# Altium footprint library SSW-109-01-T-S.PcbLib: 1 footprints
Each footprint in its own frame and in the unit in brackets; x right, y up, seen from the top. Pads: shape width x height; smd on the part's side, far side on the other; paste and mask are expansions set on the pad; w line width, h text height; cw(c..) or ccw(c..) is an arc to the next point about the centre after c.
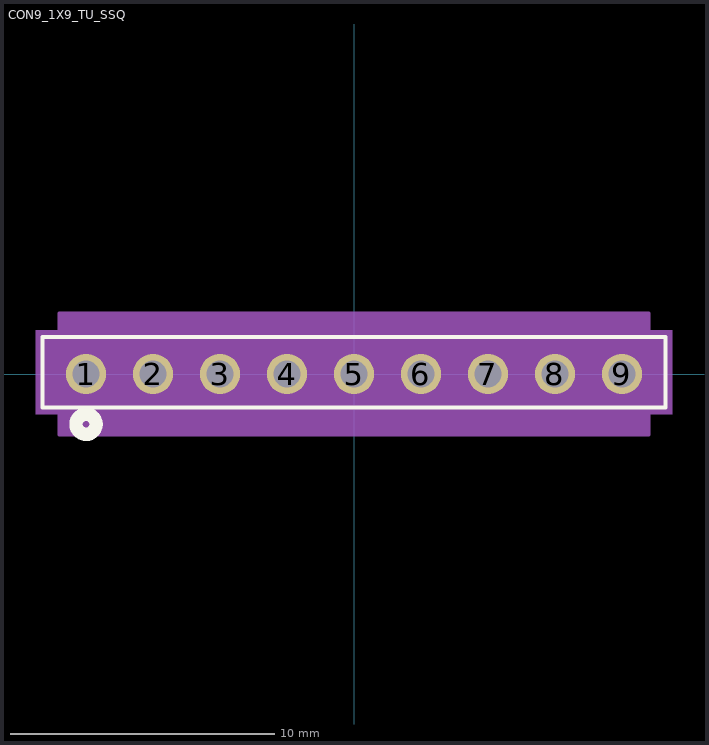
[diagram p0: the footprint, top view; thin cyan lines are the x and y axes]

## CON9_1X9_TU_SSQ [mil]
pads (9):
  round 60 hole 40 mask+0: 1(-400,0) 2(-300,0) 3(-200,0) 4(-100,0) 5(0,0) 6(100,0) 7(200,0) 8(300,0) 9(400,0)
Top Overlay:
  circle w20: c-400,-75 r15
  lines w6: -465,-50 465,-50 465,55 -465,55 -465,-50
Bottom Overlay:
  circle w20: c-400,-75 r15
Mechanical 5:
  region: -475,65 475,65 475,-60 -475,-60
Mechanical 13:
  circle w0: c-400,0 r10
  lines w1: -460,-45 460,-45 460,50 -460,50 -460,-45
Mechanical 15:
  region: 470,60 440,60 440,90 -440,90 -440,60 -470,60 -470,-55 -440,-55 -440,-90 440,-90 440,-55 470,-55
  lines w6: -470,-55 -470,60 -440,60 -440,90 440,90 440,60 470,60 470,-55 440,-55 440,-90 -440,-90 -440,-55 -470,-55
3D body: height 10, standoff 0, extent 0,0 10,10